# Altium footprint library Trans-EI-28-20-11.PcbLib: 1 footprints
Each footprint in its own frame and in the unit in brackets; x right, y up, seen from the top. Pads: shape width x height; smd on the part's side, far side on the other; paste and mask are expansions set on the pad; w line width, h text height; cw(c..) or ccw(c..) is an arc to the next point about the centre after c.
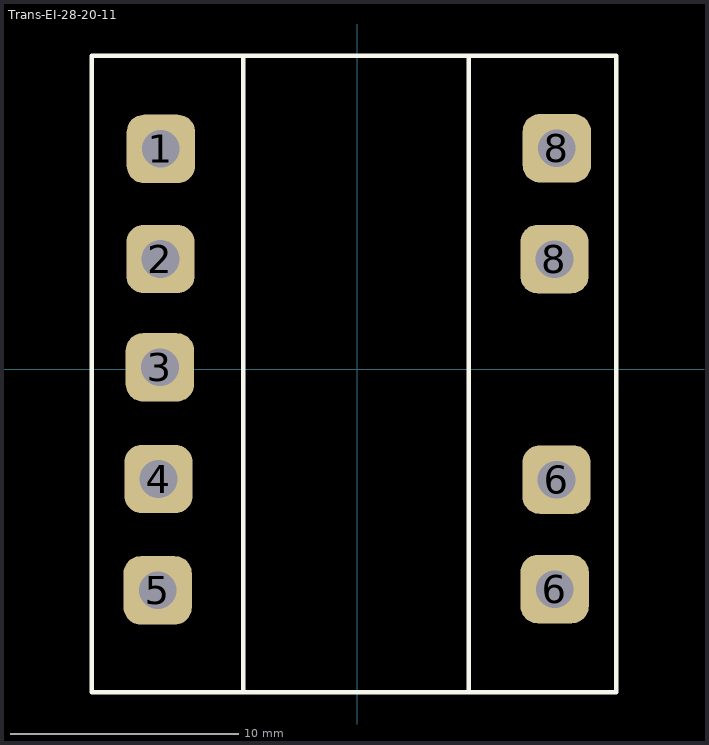
[diagram p0: the footprint, top view; thin cyan lines are the x and y axes]

## Trans-EI-28-20-11 [mm]
height 0.94
pads (9):
  rrect50% 3x3 hole 1.65: 1(-8.611,9.664) 2(-8.629,4.836) 3(-8.653,0.087) 4(-8.716,-4.811) 5(-8.752,-9.694) 6(8.658,-9.64) 6(8.739,-4.839) 8(8.648,4.832) 8(8.752,9.694)
Top Overlay:
  lines w0.2: -4.997,-14.159 -4.997,13.748 ; 4.881,-14.159 4.881,13.748 ; -11.643,-14.159 11.357,-14.159 11.357,13.748 -11.643,13.748 -11.643,-14.159
3D body "070-5080_Download_STP_070-5080_rev1.STEP": height 2.5, standoff -30.23, extent -10.713,-13.172 10.427,12.831